# Altium footprint library NETTIE.PcbLib: 3 footprints
Each footprint in its own frame and in the unit in brackets; x right, y up, seen from the top. Pads: shape width x height; smd on the part's side, far side on the other; paste and mask are expansions set on the pad; w line width, h text height; cw(c..) or ccw(c..) is an arc to the next point about the centre after c.
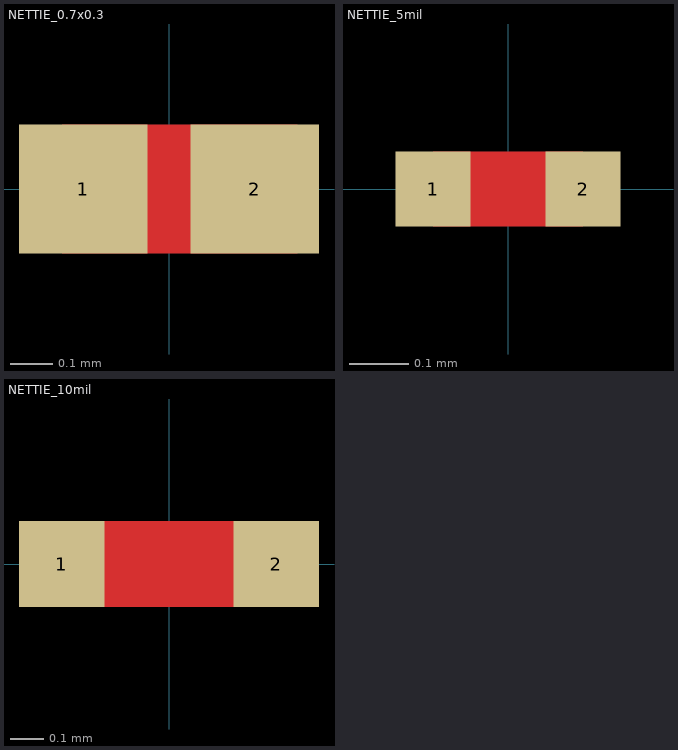
[diagram p0: the footprints below, top view; thin cyan lines are the x and y axes]

## NETTIE_0.7x0.3 [mm]
pads (2):
  rect 0.3x0.3 smd mask+0: 1(-0.2,0) 2(0.2,0)
Top Layer:
  rectangle: -0.25,-0.15 0.3,0.15
Top Solder:
  rectangle: -0.3,-0.15 0.25,0.15

## NETTIE_5mil [mil]
pads (2):
  rect 5x5 smd mask+0: 1(-5,0) 2(5,0)
Top Layer:
  rectangle: -5,-2.5 5,2.5

## NETTIE_10mil [mil]
pads (2):
  rect 10x10 smd mask+0: 1(-12.5,0) 2(12.5,0)
Top Layer:
  rectangle: -10,-5 10,5